# EAGLE library part HEF4081BT (library NXP_By_element14_Batch_1)
Quad 2-input AND gate
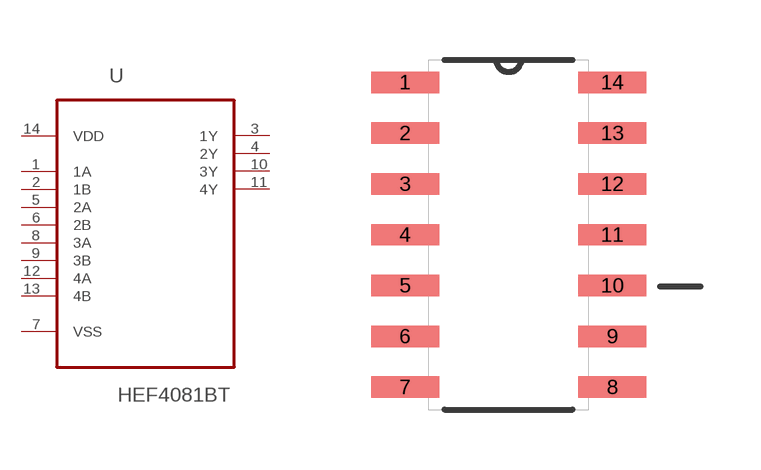
[diagram p274: symbol with the pads of SOIC127P600X175-14N; footprint SOIC127P600X175-14N]

Designator prefix U

## HEF4081BT (MPN: HEF4081BT; OC_FARNELL: 1085290; OC_NEWARK: 97K1297; P1I: o; PACKAGE: SOIC-14; SUPPLIER: NXP)  [SOIC127P600X175-14N]
1  1A  in
2  1B  in
3  1Y  out
4  2Y  out
5  2A  in
6  2B  in
7  VSS  pas
8  3A  in
9  3B  in
10  3Y  out
11  4Y  out
12  4A  in
13  4B  in
14  VDD  pwr

## Footprint SOIC127P600X175-14N (pad centres in mm)
smd 1.702 x 0.533: 1 -2.591,3.81; 2 -2.591,2.54; 3 -2.591,1.27; 4 -2.591,0; 5 -2.591,-1.27; 6 -2.591,-2.54; 7 -2.591,-3.81; 8 2.591,-3.81; 9 2.591,-2.54; 10 2.591,-1.27; 11 2.591,0; 12 2.591,1.27; 13 2.591,2.54; 14 2.591,3.81